# Altium footprint library SIP10_2.PcbLib: 1 footprints
Each footprint in its own frame and in the unit in brackets; x right, y up, seen from the top. Pads: shape width x height; smd on the part's side, far side on the other; paste and mask are expansions set on the pad; w line width, h text height; cw(c..) or ccw(c..) is an arc to the next point about the centre after c.
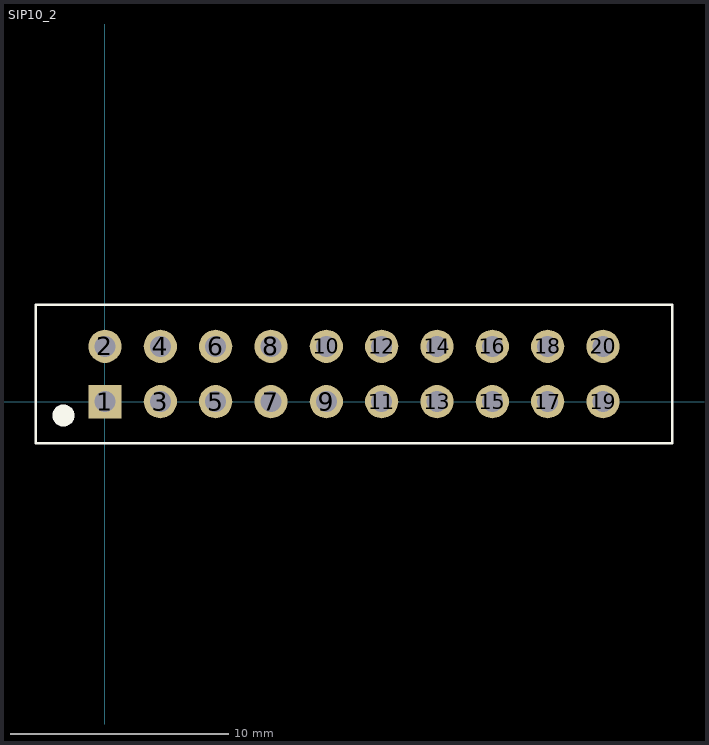
[diagram p0: the footprint, top view; thin cyan lines are the x and y axes]

## SIP10_2 [mil]
pads (20):
  rect 60x60 hole 38: 1(0,0)
  round 60 hole 38: 2(0,100) 3(100,0) 4(100,100) 5(200,0) 6(200,100) 7(300,0) 8(300,100) 9(400,0) 10(400,100) 11(500,0) 12(500,100) 13(600,0) 14(600,100) 15(700,0) 16(700,100) 17(800,0) 18(800,100) 19(900,0) 20(900,100)
Top Overlay:
  circle w20: c-75,-25 r10
  lines w5: -125,-75 -125,175 1025,175 1025,-75 -125,-75
3D body: height 397.64, standoff -59.06, extent 650.31,-51 950.31,149
3D body: height 397.64, standoff -59.06, extent 350.31,-51 650.31,149
3D body: height 397.64, standoff -59.06, extent 150.31,-51 450.31,149
3D body: height 397.64, standoff -59.06, extent -49.69,-51 250.31,149